# EAGLE library part NHD-C12832A1Z-FSW-FBW-3V3 (library card)
Graphic LCD Display Module Transflective Black (White - Inverted) FSTN - Film Super-Twisted Nematic SPI 128 x 32
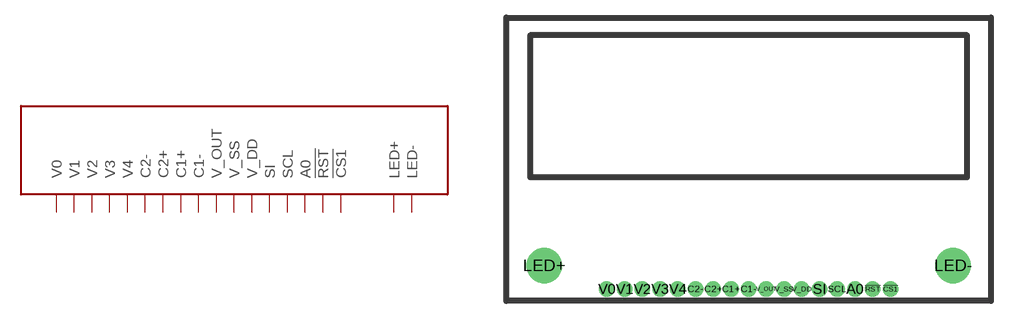
[diagram p0: symbol with the pads of NHD-C12832A1Z-FSW-FBW-3V3; footprint NHD-C12832A1Z-FSW-FBW-3V3]

Designator prefix -

## NHD-C12832A1Z-FSW-FBW-3V3 (MPN: NHD-C12832A1Z-FSW-FBW-3V3)  [NHD-C12832A1Z-FSW-FBW-3V3]
!CS1  !CS1
!RST  !RST
A0  A0
C1+  C1+
C1-  C1-
C2+  C2+
C2-  C2-
LED+  LED+
LED-  LED-
SCL  SCL
SI  SI
V0  V0
V1  V1
V2  V2
V3  V3
V4  V4
V_DD  V_DD
V_OUT  V_OUT
V_SS  V_SS

## Footprint NHD-C12832A1Z-FSW-FBW-3V3 (pad centres in mm)
drill 0.8: !CS1 12,-11; !RST 10.5,-11; A0 9,-11; C1+ -1.5,-11; C1- 0,-11; C2+ -3,-11; C2- -4.5,-11; SCL 7.5,-11; SI 6,-11; V0 -12,-11; V1 -10.5,-11; V2 -9,-11; V3 -7.5,-11; V4 -6,-11; V_DD 4.5,-11; V_OUT 1.5,-11; V_SS 3,-11
drill 2: LED+ -17.3,-9; LED- 17.3,-9